# Altium schematic symbol library Schlib.SchLib: 629 symbols (part 7 of 21)
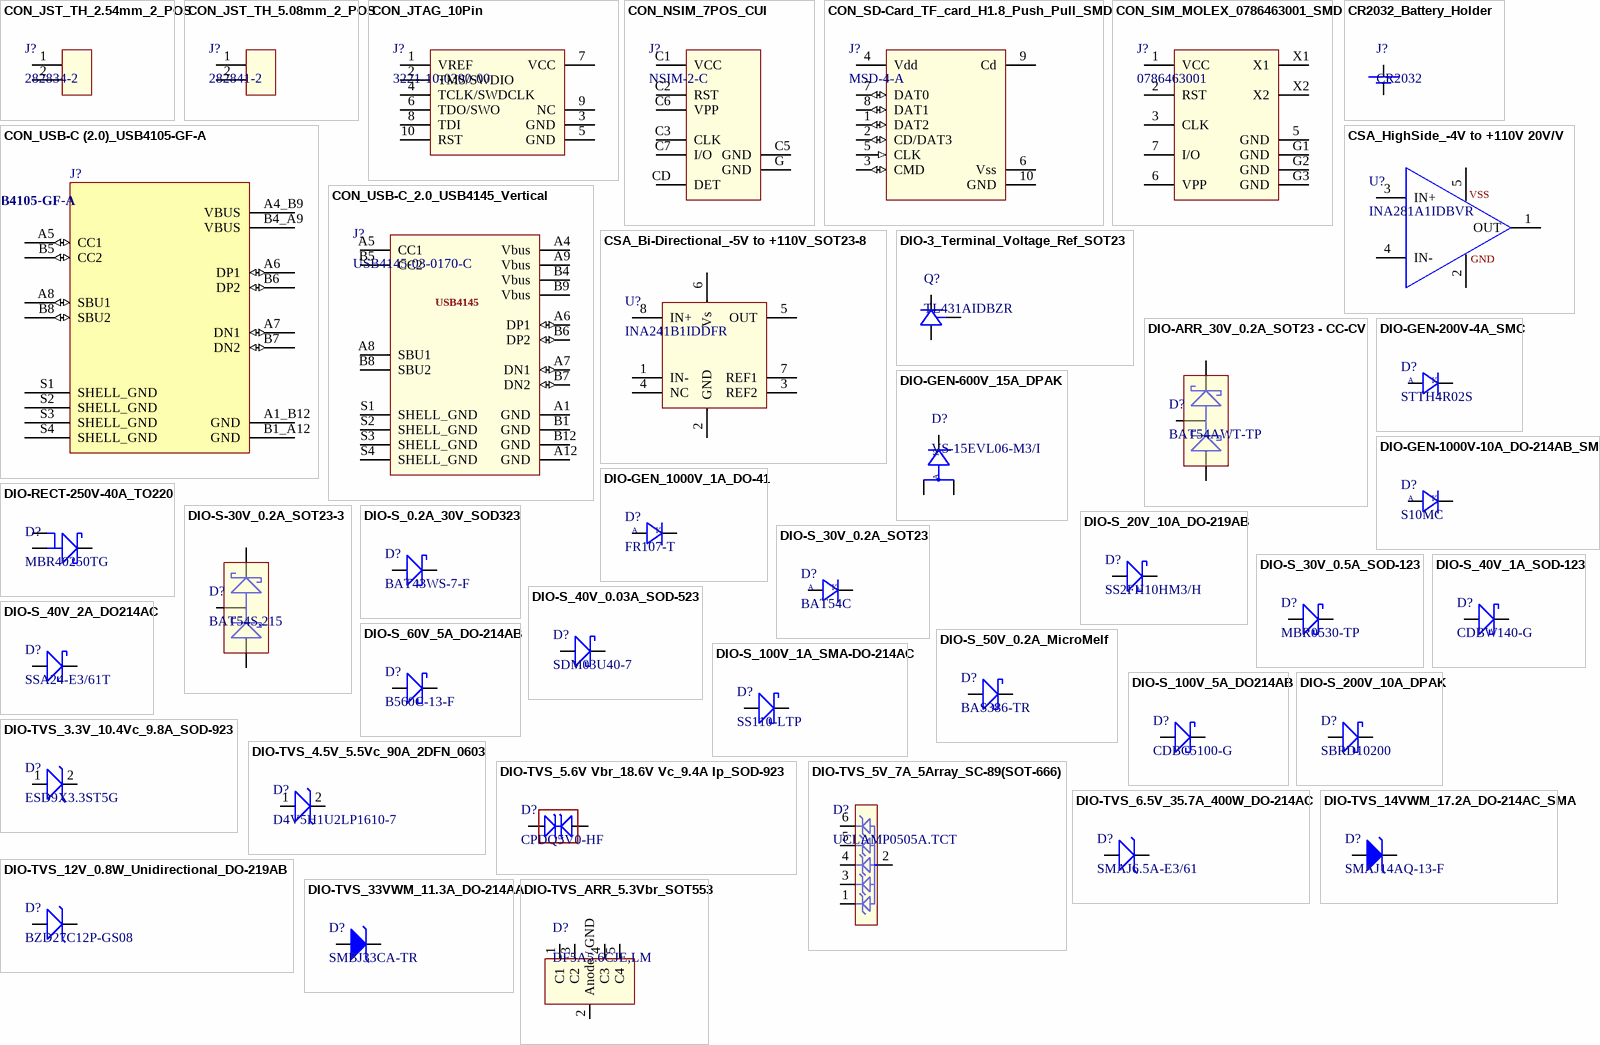
[diagram p24: symbols CON_JST_TH_2.54mm_2_POS to DIO-TVS_ARR_5.3Vbr_SOT553]

## CON_JST_TH_5.08mm_2_POS
designator J?, comment 282841-2
Modular Terminal Block, 17.5A, 2.5mm2, 1 Row(s), 1 Deck(s); Manufacturer: TE Connectivity; Manufacturer Series: 282841; Fastening Method: SCREW; Number of Decks: 1; Number of Ways: 2; Voltage Rating: 250V; Wire/Cable Gauge: 12AWG; Safety Approval: UL; Supplier: Farnell; Supplier Part Number: 4548183; Manufacturer Part Number: 282841-2; RoHS: Yes; Category: Terminal Blocks; Stock: 52539; Pricing: 150=0.712, 450=0.634 (EUR); Mounting Technology: Board; Number of Rows: 1; Terminal and Terminal Block Type: MODULAR TERMINAL BLOCK; Current Rating: 17.5A; Wire Cross Section: 2.5mm2; RoHS Compliant: Yes; Reach SVHC Compliant: No; ComponentLink1URL: https://datasheet.ciiva.com:443/pdfs/VipMasterIC/IC/TYEL/TYEL-S-A0008743874/TYEL-S-A0008711718-1.pdf?src-supplier=IHS+Markit; ComponentLink1Description: https://datasheet.ciiva.com:443/pdfs/VipMasterIC/IC/TYEL/TYEL-S-A0008743874/TYEL-S-A0008711718-1.pdf?src-supplier=IHS+Markit; ComponentLink2URL: https://datasheet.ciiva.com/15225/getdatasheetpartid-155859-15225932.pdf?src-supplier=Verical; ComponentLink2Description: https://datasheet.ciiva.com/15225/getdatasheetpartid-155859-15225932.pdf?src-supplier=Verical; ComponentLink3URL: https://datasheet.ciiva.com/11758/0900766b80e7dc90-11758676.pdf?src-supplier=Rs; ComponentLink3Description: https://datasheet.ciiva.com/11758/0900766b80e7dc90-11758676.pdf?src-supplier=Rs; ComponentLink4URL: https://datasheet.ciiva.com/823/eng-cd-282841-h6-823441.pdf?src-supplier=Digikey; ComponentLink4Description: https://datasheet.ciiva.com/823/eng-cd-282841-h6-823441.pdf?src-supplier=Digikey; ComponentLink5URL: https://datasheet.ciiva.com/30126/eng-cs-1308389-eurostyle-terminal-blocks-0607-30126654.pdf?src-supplier=Onlinecomponents.com; ComponentLink5Description: https://datasheet.ciiva.com/30126/eng-cs-1308389-eurostyle-terminal-blocks-0607-30126654.pdf?src-supplier=Onlinecomponents.com
footprint CON_JST_2POS_5.08mm
pins: 1, 2

## CON_JTAG_10Pin
designator J?, comment 3221-10-0300-00
Board Connector, 10 Contact(s), 2 Row(s), Male, Straight, Surface Mount Terminal; Manufacturer: CNC Tech; Option: General Purpose; Filter Feature: No; Mating Information: MULTIPLE MATING PARTS AVAILABLE; Number of Rows Loaded: 2; Number of Contacts: 10; Supplier: Digikey; Supplier Part Number: 1175-1735-ND; Manufacturer Part Number: 3221-10-0300-00; RoHS: Yes; Category: Connectors; Stock: 27108; Pricing: 1=0.82, 10=0.693, 80=0.62213, 440=0.50905, 3200=0.41006, 6400=0.39592, 12800=0.36764 (USD); Mounting Technology: Board; Contact Material: Brass; Contact Finish - Mating: GOLD FLASH; Contact Finish - Termination: GOLD FLASH; Connector Type: BOARD CONNECTOR; JESD-609 Code: e4; Contact Gender: Male; Mixed Contacts: No; Mounting Style: STRAIGHT; Termination: SMD/SMT; Terminal Pitch: 1.27mm; Flammability Rating: UL94 V-0; Reach SVHC Compliant: Yes; RoHS Compliant: Yes; DIN Conformance: No; IEC Conformance: No; MIL Conformance: No; ComponentLink1URL: https://datasheet.ciiva.com:443/pdfs/VipMasterIC/IC/CNCT/CNCT-S-A0002923148/CNCT-S-A0002923148-1.pdf?src-supplier=IHS+Markit; ComponentLink1Description: https://datasheet.ciiva.com:443/pdfs/VipMasterIC/IC/CNCT/CNCT-S-A0002923148/CNCT-S-A0002923148-1.pdf?src-supplier=IHS+Markit; ComponentLink2URL: http://cnctech.us/pdfs/3221-XX-0300-00.pdf?src-supplier=Digikey; ComponentLink2Description: http://cnctech.us/pdfs/3221-XX-0300-00.pdf?src-supplier=Digikey
footprint 3221-10-0300-00
pins: 1 VREF, 2 TMS/SWDIO, 3 GND, 4 TCLK/SWDCLK, 5 GND, 6 TDO/SWO, 7 VCC, 8 TDI, 9 NC, 10 RST

## CON_NSIM_7POS_CUI
designator J?, comment NSIM-2-C
NANO SIM CARD CONNECTORS, 6 POSI; Manufacturer: CUI Devices; Supplier: Digikey; Supplier Part Number: 2223-NSIM-2-CCT-ND; Manufacturer Part Number: NSIM-2-C; RoHS: No; Category: LDO; Stock: 2842; Pricing: 1=0.64, 10=0.626, 25=0.6136, 50=0.5768, 100=0.4909, 250=0.45404, 500=0.44178 (USD)
footprint NSIM_CUI
pins: C1 VCC, C2 RST, C3 CLK, C5 GND, C6 VPP, C7 I/O, CD DET, G GND

## CON_SD-Card_TF_card_H1.8_Push_Pull_SMD
designator J?, comment MSD-4-A
Memory Card Connectors 9 Positions, Push In, Auto Eject Out, SMT, 1.8 mm Height Above Board,; Manufacturer: SHOU HAN; Manufacturer Part Number: TF-CARDH1.8; ComponentLink6URL: https://datasheet.ciiva.com/683/1040310811-sd-683581.pdf?src-supplier=Digi-Key; ComponentLink6Description: https://datasheet.ciiva.com/683/1040310811-sd-683581.pdf?src-supplier=Digi-Key; ComponentLink7URL: https://datasheet.ciiva.com/15174/getdatasheetpartid-716154-15174887.pdf?src-supplier=Verical; ComponentLink7Description: https://datasheet.ciiva.com/15174/getdatasheetpartid-716154-15174887.pdf?src-supplier=Verical; Supplier: LCSC; Supplier Part Number: C7529389; RoHS: No; Category: Uncategorized; Stock: 1616; Pricing: 1=0.35, 10=0.348, 25=0.3408, 50=0.3204, 100=0.2727, 250=0.25224, 500=0.24544 (USD)
footprint CON_SD_CARD_9POS_1.1mm-P_1ROW (MSD-4-A / TF-CARD-H1.8)
pins: 1 DAT2 (io), 2 CD/DAT3 (io), 3 CMD (io), 4 Vdd (power), 5 CLK (in), 6 Vss (power), 7 DAT0 (io), 8 DAT1 (io), 9 Cd, 10 GND

## CON_SIM_MOLEX_0786463001_SMD
designator J?, comment 0786463001
PCB Connector, 6 Contact(s), 2 Row(s), Male, Right Angle, Surface Mount Terminal, Locking, Black Insulator, Socket; Manufacturer: Molex; Manufacturer Part Number: 78646-3001; Supplier: Digi-Key; Supplier Part Number: WM9364CT-ND; RoHS: Yes; Category: Memory Connectors; Stock: 261350; Pricing: 1=1.27, 10=1.048, 100=0.8736 (USD); ComponentLink1URL: https://datasheet.ciiva.com/4581/0786463001-memory-card-socket-152580-4581070.pdf?src-supplier=Mouser; ComponentLink1Description: https://datasheet.ciiva.com/4581/0786463001-memory-card-socket-152580-4581070.pdf?src-supplier=Mouser; ComponentLink2URL: https://datasheet.ciiva.com/24490/525020786463001-memory-card-socket-24490529.pdf?src-supplier=Onlinecomponents.com; ComponentLink2Description: https://datasheet.ciiva.com/24490/525020786463001-memory-card-socket-24490529.pdf?src-supplier=Onlinecomponents.com; ComponentLink3URL: https://datasheet.ciiva.com/16655/0786463001-memory-card-socket-16655172.pdf?; ComponentLink3Description: https://datasheet.ciiva.com/16655/0786463001-memory-card-socket-16655172.pdf?
footprint SIM_SOCKET_0786463001_MOLEX (0786463001)
pins: 1 VCC, 2 RST, 3 CLK, 5 GND, 6 VPP, 7 I/O, G1 GND, G2 GND, G3 GND, X1, X2

## CON_USB-C (2.0)_USB4105-GF-A
designator J?  (value not drawn)
Conn USB 2.0 Type C RCP 24 POS 0.3mm/0.5mm Solder RA SMD 24 Terminal 1 Port T/R; Manufacturer 1: Global Connector Technology; Manufacturer Part Number 1: USB4105-GF-A; Gender: Receptacle; Mating Cycles: 10000; Shielding: Shielded; Number of Ports: 1; ComponentLink1URL: https://gct.co/files/drawings/usb4105.pdf?src-supplier=Digi-Key; ComponentLink1Description: https://gct.co/files/drawings/usb4105.pdf?src-supplier=Digi-Key; ComponentLink2URL: https://datasheet.octopart.com/USB4105-GF-A-GCT-datasheet-166929323.pdf?src-supplier=TME; ComponentLink2Description: https://datasheet.octopart.com/USB4105-GF-A-GCT-datasheet-166929323.pdf?src-supplier=TME; Supplier 1: Farnell; RoHS: No; Category: USB Connectors; Pricing 1: 1=0.72, 20=0.559, 60=0.522, 160=0.443, 400=0.434 (GBP); Mount: Surface Mount,Through Hole,Horizontal; Contact Plating: Gold; Insulation Color: Black; Min Operating Temperature: -40°C; Max Operating Temperature: 85°C; Connector Type: USB; Series: USB4105; Termination: Solder; Flammability Rating: UL94 V-0; Supplier Part Number 1: 3588205
footprint CON_USB_TYPE-C-2.0 SMD TH
footprint CON_USB_TYPE-C-2.0 SMD TH
pins: A1_B12 GND, A4_B9 VBUS, A5 CC1 (io), A6 DP1 (io), A7 DN1 (io), A8 SBU1 (io), B1_A12 GND, B4_A9 VBUS, B5 CC2 (io), B6 DP2 (io), B7 DN2 (io), B8 SBU2 (io), S1 SHELL_GND, S2 SHELL_GND, S3 SHELL_GND, S4 SHELL_GND

## CON_USB-C_2.0_USB4145_Vertical
designator J?, comment USB4145-03-0170-C
16 posn USB 2.0 Type C, Receptacle, Vertical, SMT, Height 20, 000 mtg cycles; Manufacturer: Global Connector Technology; Supplier: Future Electronics; Supplier Part Number: 1181366; Manufacturer Part Number: USB4145-03-0170-C; RoHS: No; Category: Connectors; Stock: 1200; Pricing: 600=0.585, 1200=0.57, 1800=0.56, 2400=0.555, 3000=0.54 (USD); ComponentLink1URL: https://datasheet.octopart.com/USB4145-03-0170-C-Global-Connector-Technology-datasheet-164722446.pdf?src-supplier=Future+Electronics; ComponentLink1Description: https://datasheet.octopart.com/USB4145-03-0170-C-Global-Connector-Technology-datasheet-164722446.pdf?src-supplier=Future+Electronics
footprint USB4145-03-0170-C
pins: A1 GND, A4 Vbus, A5 CC1, A6 DP1 (io), A7 DN1 (io), A8 SBU1, A9 Vbus, A12 GND, B1 GND, B4 Vbus, B5 CC2, B6 DP2 (io), B7 DN2 (io), B8 SBU2, B9 Vbus, B12 GND, S1 SHELL_GND, S2 SHELL_GND, S3 SHELL_GND, S4 SHELL_GND
text: USB4145

## CR2032_Battery_Holder
designator J?, comment CR2032
footprint CR2032-Battery Holder
pins: 1, 2 1

## CSA_Bi-Directional_-5V to +110V_SOT23-8
designator U?, comment INA241B1IDDFR
-5-V to 110-V bidirectional high-precision current sense amplifier with enhanced PWM rejection 8-SOT-23-THIN -40 to 125; Manufacturer: Texas Instruments; Supplier: Mouser; Supplier Part Number: 595-INA241B1IDDFR; Manufacturer Part Number: INA241B1IDDFR; RoHS: No; Category: Amplifiers - Op Amps, Buffer, Instrumentation; Stock: 4388; Pricing: 1=2.76, 10=2.4, 50=2.4, 100=1.99, 1000=1.36, 10000=1.18 (USD)
footprint SOT23-8
pins: 1 IN-, 2 GND, 3 REF2, 4 NC, 5 OUT, 6 Vs, 7 REF1, 8 IN+

## CSA_HighSide_-4V to +110V 20V/V
designator U?, comment INA281A1IDBVR
Operational Amplifier, 1 Func, 500uV Offset-Max, PDSO5; Manufacturer: Texas Instruments; Supplier: Mouser; Supplier Part Number: 595-INA281A1IDBVR; Manufacturer Part Number: INA281A1IDBVR; RoHS: Yes; Category: Amplifiers - Op Amps, Buffer, Instrumentation; Stock: 2500; Pricing: 1=2.5, 10=2.13, 50=2.13, 100=1.81, 1000=1.24, 10000=1.1 (USD)
footprint SOT23-5
pins: 1 OUT, 2 GND, 3 IN+, 4 IN-, 5 Vs
text: VSS

## DIO-3_Terminal_Voltage_Ref_SOT23
designator Q?, comment TL431AIDBZR
Three Terminal Voltage Reference, 1 Output, 2.495V, Trim/Adjustable, BIPolar, PDSO3; Manufacturer: Texas Instruments; Package Body Material: Plastic; Channels: 1; Max Output Voltage: 2.52V; Min Output Voltage: 2.47V; Max Supply Voltage: 36V; Temp Coef of Voltage-Max: 109.018ppm/°C; Trim/Adjustable Output: Yes; Max Output current: 100mA; Package Equivalence Code: TO-236; Qualification Status: Not Qualified; Supplier: Mouser; Supplier Part Number: 595-TL431AIDBZR; Manufacturer Part Number: TL431AIDBZR; RoHS: Yes; Category: Voltage References; Stock: 724956; Pricing: 1=0.21, 10=0.128, 50=0.128, 100=0.095, 1000=0.086, 10000=0.077 (USD); Case/Package: TSSOP; Pins: 3; Terminal Finish: Nickel; Package Shape: Rectangular; Min Operating Temperature: -40°C; Max Operating Temperature: 85°C; JESD-609 Code: e4; Throw Configuration: THREE TERMINAL VOLTAGE REFERENCE; Moisture Sensitivity Level: 1; JESD-30 Code: R-PDSO-G3; Number of Outputs: 1; Nominal Output Voltage: 2.495V; Package Style: SMALL OUTLINE, THIN PROFILE, SHRINK PITCHMeter; Min Supply Voltage: 2.495V; Surface Mount: Yes; Terminal Form: Gull Wing; Terminal Position: DUAL; Peak Reflow Temperature (Cel): 260°C; Technology: BIPOLAR; Length: 2.92mm; Width: 1.3mm; Height - Seated (Max): 1.12mm; Terminal Pitch: 0.95mm; RoHS Compliant: Yes; Temperature Grade: INDUSTRIAL; Reach SVHC Compliant: Yes; ComponentLink1URL: https://www.ti.com:443/lit/ds/symlink/tl431.pdf?src-supplier=IHS+Markit; ComponentLink1Description: https://www.ti.com:443/lit/ds/symlink/tl431.pdf?src-supplier=IHS+Markit; ComponentLink2URL: https://datasheet.ciiva.com/3235/tl432b-3235600.pdf?src-supplier=Avnet; ComponentLink2Description: https://datasheet.ciiva.com/3235/tl432b-3235600.pdf?src-supplier=Avnet; ComponentLink3URL: https://datasheet.ciiva.com/15148/getdatasheetpartid-171576-15148968.pdf?src-supplier=Verical; ComponentLink3Description: https://datasheet.ciiva.com/15148/getdatasheetpartid-171576-15148968.pdf?src-supplier=Verical; ComponentLink4URL: https://datasheet.ciiva.com/41462/001014548-da-01-en-ic-vref-shunt-prec-tl431aidbzr-sot-3-tid-41462400.pdf?src-supplier=Conrad; ComponentLink4Description: https://datasheet.ciiva.com/41462/001014548-da-01-en-ic-vref-shunt-prec-tl431aidbzr-sot-3-tid-41462400.pdf?src-supplier=Conrad; ComponentLink5URL: https://datasheet.ciiva.com/46397/1887475-46397705.pdf?src-supplier=Element14; ComponentLink5Description: https://datasheet.ciiva.com/46397/1887475-46397705.pdf?src-supplier=Element14; ComponentLink6URL: https://datasheet.ciiva.com/2006/tl431a-2006188.pdf?src-supplier=Digikey; ComponentLink6Description: https://datasheet.ciiva.com/2006/tl431a-2006188.pdf?src-supplier=Digikey; ComponentLink7URL: https://datasheet.ciiva.com/2006/tl431a-2006187.pdf?src-supplier=Digikey; ComponentLink7Description: https://datasheet.ciiva.com/2006/tl431a-2006187.pdf?src-supplier=Digikey; ComponentLink8URL: https://datasheet.ciiva.com/2006/tl431a-2006189.pdf?src-supplier=Digikey; ComponentLink8Description: https://datasheet.ciiva.com/2006/tl431a-2006189.pdf?src-supplier=Digikey
footprint SOT23
pins: 1, 2, 3

## DIO-ARR_30V_0.2A_SOT23 - CC-CV
designator D?, comment BAT54AWT-TP
Rectifier Diode, Schottky, 2 Element, 0.2A, 30V V(RRM), Silicon; Manufacturer: MCC; Package Body Material: Plastic; Forward Voltage: 240mV; Non-rep Pk Forward Current-Max: 600mA; Number of Elements: 2; Max Output current: 200mA; Max Power Dissipation: 200mW; Reverse Recovery Time-Max: 0.005us; Time @ Peak Reflow Temperature-Max (s): 10s; Qualification Status: Not Qualified; Supplier: Digikey; Supplier Part Number: BAT54AWT-TPCT-ND; Manufacturer Part Number: BAT54AWT-TP; RoHS: Yes; Category: Rectifier Diodes; Stock: 43623; Pricing: 1=0.16, 10=0.096, 100=0.0593, 500=0.04302, 1000=0.03771 (USD); Pins: 3; Diode Element Material: SILICON; Package Shape: Rectangular; Terminal Finish: Tin; Min Operating Temperature: -55°C; Max Operating Temperature: 125°C; JESD-609 Code: e3; Diode Type: RECTIFIER; JESD-30 Code: R-PDSO-G3; Moisture Sensitivity Level: 1; Package Style: SMALL OUTLINEMeter; Peak Reflow Temperature (Cel): 260°C; Rep Pk Reverse Voltage-Max: 30V; Surface Mount: Yes; Technology: SCHOTTKY; Terminal Form: Gull Wing; Terminal Position: DUAL; Reach SVHC Compliant: Yes; RoHS Compliant: Yes; ComponentLink1URL: https://datasheet.ciiva.com:443/pdfs/VipMasterIC/IC/MCCC/MCCC-S-A0004715819/MCCC-S-A0004715819-1.pdf?src-supplier=IHS+Markit; ComponentLink1Description: https://datasheet.ciiva.com:443/pdfs/VipMasterIC/IC/MCCC/MCCC-S-A0004715819/MCCC-S-A0004715819-1.pdf?src-supplier=IHS+Markit; ComponentLink2URL: https://datasheet.ciiva.com/7624/1684808-7624704.pdf?src-supplier=Element14; ComponentLink2Description: https://datasheet.ciiva.com/7624/1684808-7624704.pdf?src-supplier=Element14; ComponentLink3URL: https://datasheet.ciiva.com/904/bat54wtbat54swtsot-323-904760.pdf?src-supplier=Digikey; ComponentLink3Description: https://datasheet.ciiva.com/904/bat54wtbat54swtsot-323-904760.pdf?src-supplier=Digikey; ComponentLink4URL: https://datasheet.ciiva.com/904/bat54wtbat54swtsot-323-904761.pdf?src-supplier=Digikey; ComponentLink4Description: https://datasheet.ciiva.com/904/bat54wtbat54swtsot-323-904761.pdf?src-supplier=Digikey; ComponentLink5URL: https://datasheet.ciiva.com/904/bat54wtbat54swtsot-323-904762.pdf?src-supplier=Digikey; ComponentLink5Description: https://datasheet.ciiva.com/904/bat54wtbat54swtsot-323-904762.pdf?src-supplier=Digikey
footprint SOT23
pins: 1, 2, 3

## DIO-GEN-200V-4A_SMC
designator D?, comment STTH4R02S
Rectifier Diode, 1 Phase, 1 Element, 4A, 200V V(RRM), Silicon; Manufacturer: STMicroelectronics; Package Body Material: Plastic; Additional Feature: FREE WHEELING DIODE; Application(s): ULTRA FAST RECOVERY; Forward Voltage: 830mV; Non-rep Pk Forward Current-Max: 70A; Number of Elements: 1; Reverse Recovery Time-Max: 0.03us; Qualification Status: Not Qualified; Supplier: Rs; Supplier Part Number: 6870723P; Manufacturer Part Number: STTH4R02S; RoHS: Yes; Category: Rectifier Diodes; Stock: 1000; Pricing: 100=0.233, 500=0.178, 1000=0.149 (EUR); Pins: 2; Diode Element Material: SILICON; Package Shape: Rectangular; Terminal Finish: Tin; Max Operating Temperature: 175°C; JESD-609 Code: e3; Diode Type: RECTIFIER; JESD-30 Code: R-PDSO-C2; Moisture Sensitivity Level: 1; Number of Phases: 1; Max Output current: 4A; Package Style: SMALL OUTLINEMeter; Rep Pk Reverse Voltage-Max: 200V; Surface Mount: Yes; Terminal Form: C BEND; Terminal Position: DUAL; Peak Reflow Temperature (Cel): 225°C; RoHS Compliant: Yes; Reach SVHC Compliant: No; ComponentLink1URL: https://datasheet.ciiva.com:443/pdfs/VipMasterIC/IC/SGST/SGST-S-A0002807714/SGST-S-A0002807714-1.pdf?src-supplier=IHS+Markit; ComponentLink1Description: https://datasheet.ciiva.com:443/pdfs/VipMasterIC/IC/SGST/SGST-S-A0002807714/SGST-S-A0002807714-1.pdf?src-supplier=IHS+Markit; ComponentLink2URL: https://datasheet.ciiva.com/14169/cd00110337-14169016.pdf?src-supplier=Distrelec; ComponentLink2Description: https://datasheet.ciiva.com/14169/cd00110337-14169016.pdf?src-supplier=Distrelec; ComponentLink3URL: https://datasheet.ciiva.com/22696/1877641-22696085.pdf?src-supplier=Element14; ComponentLink3Description: https://datasheet.ciiva.com/22696/1877641-22696085.pdf?src-supplier=Element14; ComponentLink4URL: https://datasheet.ciiva.com/7964/1877641-7964058.pdf?src-supplier=Element14; ComponentLink4Description: https://datasheet.ciiva.com/7964/1877641-7964058.pdf?src-supplier=Element14; ComponentLink5URL: https://datasheet.ciiva.com/16379/cd00110337-16379301.pdf?src-supplier=Future+Electronics; ComponentLink5Description: https://datasheet.ciiva.com/16379/cd00110337-16379301.pdf?src-supplier=Future+Electronics; ComponentLink6URL: https://datasheet.ciiva.com/916/cd00110337-916224.pdf?src-supplier=Digikey; ComponentLink6Description: https://datasheet.ciiva.com/916/cd00110337-916224.pdf?src-supplier=Digikey; ComponentLink7URL: https://datasheet.ciiva.com/916/cd00110337-916225.pdf?src-supplier=Digikey; ComponentLink7Description: https://datasheet.ciiva.com/916/cd00110337-916225.pdf?src-supplier=Digikey; ComponentLink8URL: https://datasheet.ciiva.com/916/cd00110337-916226.pdf?src-supplier=Digikey; ComponentLink8Description: https://datasheet.ciiva.com/916/cd00110337-916226.pdf?src-supplier=Digikey
footprint DO-214AB SMC
pins: 1, 2
text: A; K

## DIO-GEN-600V_15A_DPAK
designator D?, comment VS-15EVL06-M3/I
Rectifier Diode, 1 Phase, 1 Element, 15A, 600V V(RRM), Silicon, TO-252AE; Manufacturer: Vishay Semiconductors; Supplier: Mouser; Supplier Part Number: 78-VS-15EVL06-M3/I; Manufacturer Part Number: VS-15EVL06-M3/I; RoHS: Yes; Category: Rectifier Diodes; Stock: 39178; Pricing: 1=1.16, 10=0.941, 50=0.941, 100=0.659, 1000=0.457, 10000=0.434 (USD); Diode Type: RECTIFIER; RoHS Compliant: Yes; ComponentLink1URL: https://datasheet.ciiva.com:443/pdfs/VipMasterIC/IC/VISH/VISH-S-A0008532213/VISH-S-A0008532213-1.pdf?src-supplier=IHS+Markit; ComponentLink1Description: https://datasheet.ciiva.com:443/pdfs/VipMasterIC/IC/VISH/VISH-S-A0008532213/VISH-S-A0008532213-1.pdf?src-supplier=IHS+Markit; ComponentLink2URL: http://www.vishay.com/docs/96161/vs-15evl06-m3.pdf?src-supplier=Digikey; ComponentLink2Description: http://www.vishay.com/docs/96161/vs-15evl06-m3.pdf?src-supplier=Digikey
footprint DPAK - TO-252
pins: 1, 3 1, 4 2
text: K; A

## DIO-GEN-1000V-10A_DO-214AB_SMC
designator D?, comment S10MC
Diode 1000 V 10A Surface Mount DO-214AB (SMC); Manufacturer: Taiwan Semiconductor; Supplier: Digikey; Supplier Part Number: 1801-S10MCCT-ND; Manufacturer Part Number: S10MC; RoHS: No; Stock: 1493; Pricing: 1=0.59, 10=0.392, 100=0.2669, 500=0.2095, 1000=0.19051 (USD)
footprint DO-214AB SMC
pins: 1, 2
text: A; K

## DIO-GEN_1000V_1A_DO-41
designator D?, comment FR107-T
Rectifier Diode, 1 Phase, 1 Element, 1A, 1000V V(RRM), Silicon, DO-41; Manufacturer: Rectron; Package Body Material: Plastic; Additional Feature: HIGH RELIABILITY; Case Connection: Isolated; Number of Elements: 1; Rep Pk Reverse Voltage-Max: 1kV; Reverse Recovery Time-Max: 0.5us; Surface Mount: No; Qualification Status: Not Qualified; Supplier: Mouser; Supplier Part Number: 583-FR107-T; Manufacturer Part Number: FR107-T; RoHS: Yes; Category: Rectifier Diodes; Stock: 11419; Pricing: 1=0.27, 10=0.182, 50=0.182, 100=0.116, 1000=0.052, 10000=0.034 (USD); Pins: 2; Diode Element Material: SILICON; Package Shape: Round; Terminal Finish: Tin; Min Operating Temperature: -55°C; Max Operating Temperature: 150°C; JESD-609 Code: e3; Diode Type: RECTIFIER; JESD-30 Code: O-PALF-W2; Max Output current: 1A; Package Style: LONG FORMMeter; Peak Reflow Temperature (Cel): 265°C; Terminal Form: Wire; Terminal Position: AXIAL; JEDEC-95 Code: DO-41; RoHS Compliant: Yes; Reach SVHC Compliant: No; ComponentLink1URL: https://datasheet.ciiva.com:443/pdfs/VipMasterIC/IC/RECT/RECT-S-A0002848550/RECT-S-A0002848550-1.pdf?src-supplier=IHS+Markit; ComponentLink1Description: https://datasheet.ciiva.com:443/pdfs/VipMasterIC/IC/RECT/RECT-S-A0002848550/RECT-S-A0002848550-1.pdf?src-supplier=IHS+Markit; ComponentLink2URL: http://www.mouser.com/ds/2/345/fr101-107-21063.pdf?src-supplier=Mouser; ComponentLink2Description: http://www.mouser.com/ds/2/345/fr101-107-21063.pdf?src-supplier=Mouser
footprint DO-41
pins: 1 2, 2 1
text: A; K

## DIO-RECT-250V-40A_TO220
designator D?, comment MBR40250TG
Rectifier Diode, Schottky, 1 Phase, 1 Element, 40A, 250V V(RRM), Silicon, TO-220AB; Manufacturer: ON Semiconductor; Package Body Material: Plastic; Application(s): EFFICIENCY; Case Connection: CATHODE; Forward Voltage: 710mV; Non-rep Pk Forward Current-Max: 150A; Number of Elements: 1; Reverse Recovery Time-Max: 0.035us; Surface Mount: No; Time @ Peak Reflow Temperature-Max (s): 40s; Qualification Status: Not Qualified; Supplier: Rs; Supplier Part Number: 7815685P; Manufacturer Part Number: MBR40250TG; RoHS: Yes; Category: Schottky Diodes; Stock: 90; Pricing: 10=1.742, 100=1.366, 500=1.162, 1000=0.94 (EUR); Pins: 3; Diode Element Material: SILICON; Package Shape: Rectangular; Terminal Finish: Tin; Min Operating Temperature: -65°C; Max Operating Temperature: 150°C; JESD-609 Code: e3; Diode Type: RECTIFIER; JESD-30 Code: R-PSFM-T3; Number of Phases: 1; Max Output current: 40A; Package Style: FLANGE MOUNTMeter; Peak Reflow Temperature (Cel): 260°C; Rep Pk Reverse Voltage-Max: 250V; Technology: SCHOTTKY; Terminal Form: Through Hole; Terminal Position: SINGLE; JEDEC-95 Code: TO-220AB; RoHS Compliant: Yes; Reach SVHC Compliant: No; ComponentLink1URL: https://datasheet.ciiva.com:443/pdfs/VipMasterIC/IC/ONSM/ONSM-S-A0002315274/ONSM-S-A0002315274-1.pdf?src-supplier=IHS+Markit; ComponentLink1Description: https://datasheet.ciiva.com:443/pdfs/VipMasterIC/IC/ONSM/ONSM-S-A0002315274/ONSM-S-A0002315274-1.pdf?src-supplier=IHS+Markit; ComponentLink2URL: https://datasheet.ciiva.com/916/mbr40250-d-916544.pdf?src-supplier=Digikey; ComponentLink2Description: https://datasheet.ciiva.com/916/mbr40250-d-916544.pdf?src-supplier=Digikey; ComponentLink3URL: https://datasheet.ciiva.com/8299/mbr40250-d-8299912.pdf?src-supplier=Avnet; ComponentLink3Description: https://datasheet.ciiva.com/8299/mbr40250-d-8299912.pdf?src-supplier=Avnet
footprint TO220
pins: 1, 2, 3

## DIO-S-30V_0.2A_SOT23-3
designator D?, comment BAT54S,215
Rectifier Diode, Schottky, 2 Element, 0.2A, 30V V(RRM), Silicon, TO-236AB; Manufacturer: Nexperia; Package Body Material: Plastic; Number of Elements: 2; Max Output current: 200mA; Max Power Dissipation: 250mW; Reverse Recovery Time-Max: 0.005us; Time @ Peak Reflow Temperature-Max (s): 30s; Reference Standard: AEC-Q101; Supplier: Digikey; Supplier Part Number: 1727-2904-1-ND; Manufacturer Part Number: BAT54S,215; RoHS: Yes; Category: Schottky Diodes; Stock: 1191571; Pricing: 1=0.11, 10=0.075, 100=0.0504, 500=0.0382, 1000=0.03405 (USD); Pins: 3; Diode Element Material: SILICON; Package Shape: Rectangular; Terminal Finish: Tin; Min Operating Temperature: -55°C; Max Operating Temperature: 150°C; JESD-609 Code: e3; Diode Type: RECTIFIER; JESD-30 Code: R-PDSO-G3; Moisture Sensitivity Level: 1; Package Style: SMALL OUTLINEMeter; Peak Reflow Temperature (Cel): 260°C; Rep Pk Reverse Voltage-Max: 30V; Surface Mount: Yes; Technology: SCHOTTKY; Terminal Form: Gull Wing; Terminal Position: DUAL; JEDEC-95 Code: TO-236AB; Reach SVHC Compliant: Yes; RoHS Compliant: Yes; ComponentLink1URL: https://datasheet.ciiva.com:443/pdfs/VipMasterIC/IC/NEXP/NEXP-S-A0005722381/NEXP-S-A0005722381-1.pdf?src-supplier=IHS+Markit; ComponentLink1Description: https://datasheet.ciiva.com:443/pdfs/VipMasterIC/IC/NEXP/NEXP-S-A0005722381/NEXP-S-A0005722381-1.pdf?src-supplier=IHS+Markit; ComponentLink2URL: http://www.farnell.com/datasheets/1668625.pdf?src-supplier=Farnell; ComponentLink2Description: http://www.farnell.com/datasheets/1668625.pdf?src-supplier=Farnell; ComponentLink3URL: https://datasheet.octopart.com/BAT54S%2C215-Nexperia-datasheet-164353999.pdf?src-supplier=Future+Electronics; ComponentLink3Description: https://datasheet.octopart.com/BAT54S%2C215-Nexperia-datasheet-164353999.pdf?src-supplier=Future+Electronics; ComponentLink4URL: https://assets.nexperia.com/documents/data-sheet/BAT54_SER.pdf?src-supplier=Digikey; ComponentLink4Description: https://assets.nexperia.com/documents/data-sheet/BAT54_SER.pdf?src-supplier=Digikey; ComponentLink5URL: https://datasheet.octopart.com/BAT54S%2C215-Nexperia-datasheet-17957.pdf?src-supplier=Newark; ComponentLink5Description: https://datasheet.octopart.com/BAT54S%2C215-Nexperia-datasheet-17957.pdf?src-supplier=Newark; ComponentLink6URL: http://www.nxp.com/documents/data_sheet/BAT54W.pdf?src-supplier=Newark; ComponentLink6Description: http://www.nxp.com/documents/data_sheet/BAT54W.pdf?src-supplier=Newark
footprint SOT23
pins: 1, 2, 3

## DIO-S_0.2A_30V_SOD323
designator D?, comment BAT43WS-7-F
Rectifier Diode, Schottky, 1 Phase, 1 Element, 0.2A, 30V V(RRM), Silicon; Manufacturer: Diodes; Package Body Material: Plastic; Forward Voltage: 330mV; Non-rep Pk Forward Current-Max: 4A; Number of Elements: 1; Max Output current: 200mA; Max Power Dissipation: 200mW; Reverse Recovery Time-Max: 0.005us; Time @ Peak Reflow Temperature-Max (s): 40s; Qualification Status: Not Qualified; Supplier: Rs; Supplier Part Number: 7513364; Manufacturer Part Number: BAT43WS-7-F; RoHS: Yes; Category: Schottky Diodes; Stock: 3600; Pricing: 100=0.048, 600=0.076, 1500=0.062 (CHF); Pins: 2; Diode Element Material: SILICON; Package Shape: Rectangular; Terminal Finish: Tin; Min Operating Temperature: -55°C; Max Operating Temperature: 125°C; JESD-609 Code: e3; Diode Type: RECTIFIER; JESD-30 Code: R-PDSO-G2; Moisture Sensitivity Level: 1; Package Style: SMALL OUTLINEMeter; Peak Reflow Temperature (Cel): 260°C; Rep Pk Reverse Voltage-Max: 30V; Surface Mount: Yes; Technology: SCHOTTKY; Terminal Form: Gull Wing; Terminal Position: DUAL; Reach SVHC Compliant: Yes; RoHS Compliant: Yes; ComponentLink1URL: https://datasheet.ciiva.com:443/pdfs/VipMasterIC/IC/DIOD/DIODS15164/DIODS15164-1.pdf?src-supplier=IHS+Markit; ComponentLink1Description: https://datasheet.ciiva.com:443/pdfs/VipMasterIC/IC/DIOD/DIODS15164/DIODS15164-1.pdf?src-supplier=IHS+Markit; ComponentLink2URL: https://datasheet.ciiva.com/26949/getdatasheetpartid-185001-26949417.pdf?src-supplier=Verical; ComponentLink2Description: https://datasheet.ciiva.com/26949/getdatasheetpartid-185001-26949417.pdf?src-supplier=Verical; ComponentLink3URL: https://datasheet.ciiva.com/8303/ds30100-8303133.pdf?src-supplier=Avnet; ComponentLink3Description: https://datasheet.ciiva.com/8303/ds30100-8303133.pdf?src-supplier=Avnet; ComponentLink4URL: https://datasheet.ciiva.com/8303/ds30100-8303263.pdf?src-supplier=Avnet; ComponentLink4Description: https://datasheet.ciiva.com/8303/ds30100-8303263.pdf?src-supplier=Avnet; ComponentLink5URL: https://datasheet.ciiva.com/912/ds30100-912888.pdf?src-supplier=Digikey; ComponentLink5Description: https://datasheet.ciiva.com/912/ds30100-912888.pdf?src-supplier=Digikey; ComponentLink6URL: https://datasheet.ciiva.com/912/ds30100-912889.pdf?src-supplier=Digikey; ComponentLink6Description: https://datasheet.ciiva.com/912/ds30100-912889.pdf?src-supplier=Digikey; ComponentLink7URL: https://datasheet.ciiva.com/912/ds30100-912890.pdf?src-supplier=Digikey; ComponentLink7Description: https://datasheet.ciiva.com/912/ds30100-912890.pdf?src-supplier=Digikey
footprint SOD-323
pins: 1, 2

## DIO-S_20V_10A_DO-219AB
designator D?, comment SS2FH10HM3/H
Rectifier Diode, Schottky, 1 Phase, 1 Element, 2A, 100V V(RRM), Silicon, DO-219AB; Manufacturer: Vishay Semiconductors; Package Body Material: Plastic; Application(s): GENERAL PURPOSE; Forward Voltage: 860mV; Non-rep Pk Forward Current-Max: 50A; Number of Elements: 1; Max Reverse Current: 5uA; Reference Standard: AEC-Q101; Supplier: Digikey; Supplier Part Number: SS2FH10HM3/HGICT-ND; Manufacturer Part Number: SS2FH10HM3/H; RoHS: Yes; Category: Rectifier Diodes; Stock: 20427; Pricing: 1=0.42, 10=0.325, 100=0.1953, 500=0.1808, 1000=0.12294 (USD); Pins: 2; Diode Element Material: SILICON; Package Shape: Rectangular; Terminal Finish: Tin; Min Operating Temperature: -55°C; Max Operating Temperature: 175°C; JESD-609 Code: e3; Diode Type: RECTIFIER; JESD-30 Code: R-PDSO-F2; Moisture Sensitivity Level: 1; Number of Phases: 1; Max Output current: 2A; Package Style: SMALL OUTLINEMeter; Rep Pk Reverse Voltage-Max: 100V; Surface Mount: Yes; Technology: SCHOTTKY; Terminal Form: Flat; Terminal Position: DUAL; JEDEC-95 Code: DO-219AB; RoHS Compliant: Yes; ComponentLink1URL: https://datasheet.ciiva.com:443/pdfs/VipMasterIC/IC/VISH/VISH-S-A0006279306/VISH-S-A0006279306-1.pdf?src-supplier=IHS+Markit; ComponentLink1Description: https://datasheet.ciiva.com:443/pdfs/VipMasterIC/IC/VISH/VISH-S-A0006279306/VISH-S-A0006279306-1.pdf?src-supplier=IHS+Markit; ComponentLink2URL: http://www.mouser.com/ds/2/427/ss2fh10-935254.pdf?src-supplier=Mouser; ComponentLink2Description: http://www.mouser.com/ds/2/427/ss2fh10-935254.pdf?src-supplier=Mouser; ComponentLink3URL: http://www.vishay.com/docs/87749/ss2fh10.pdf?src-supplier=Digikey; ComponentLink3Description: http://www.vishay.com/docs/87749/ss2fh10.pdf?src-supplier=Digikey
footprint DO-219AB
pins: 1, 2

## DIO-S_30V_0.2A_SOT23
designator D?, comment BAT54C
Rectifier Diode, Schottky, 2 Element, 0.2A, 30V V(RRM), Silicon; Manufacturer: Diodes; Manufacturer Part Number: BAT54C-7-F; Package Body Material: Plastic; Additional Feature: HIGH RELIABILITY; Forward Voltage: 240mV; Non-rep Pk Forward Current-Max: 600mA; Number of Elements: 2; Max Output current: 200mA; Max Power Dissipation: 200mW; Reverse Recovery Time-Max: 0.005us; Time @ Peak Reflow Temperature-Max (s): 40s; Qualification Status: Not Qualified; Supplier: Farnell; Supplier Part Number: 1843689; RoHS: Yes; Category: Schottky Diodes; Stock: 750766; Pricing: 5=0.0955, 10=0.0487, 100=0.0439, 500=0.0316, 1000=0.0281, 5000=0.0202 (EUR); Pins: 3; Package Shape: Rectangular; Terminal Finish: Tin; Diode Element Material: SILICON; Min Operating Temperature: -65°C; Max Operating Temperature: 150°C; JESD-609 Code: e3; Surface Mount: Yes; Technology: SCHOTTKY; Terminal Form: Gull Wing; Terminal Position: DUAL; Diode Type: RECTIFIER; JESD-30 Code: R-PDSO-G3; Moisture Sensitivity Level: 1; Package Style: SMALL OUTLINEMeter; Peak Reflow Temperature (Cel): 260°C; Rep Pk Reverse Voltage-Max: 30V; Reach SVHC Compliant: Yes; RoHS Compliant: Yes; ComponentLink1URL: https://datasheet.ciiva.com:443/pdfs/VipMasterIC/IC/DIOD/DIOD-S-A0002832764/DIOD-S-A0002832764-1.pdf?src-supplier=IHS+Markit; ComponentLink1Description: https://datasheet.ciiva.com:443/pdfs/VipMasterIC/IC/DIOD/DIOD-S-A0002832764/DIOD-S-A0002832764-1.pdf?src-supplier=IHS+Markit; ComponentLink2URL: https://datasheet.ciiva.com/904/ds11005-904592.pdf?src-supplier=Digikey; ComponentLink2Description: https://datasheet.ciiva.com/904/ds11005-904592.pdf?src-supplier=Digikey; ComponentLink3URL: https://datasheet.ciiva.com/22695/1911820-22695254.pdf?src-supplier=Element14; ComponentLink3Description: https://datasheet.ciiva.com/22695/1911820-22695254.pdf?src-supplier=Element14; ComponentLink4URL: https://datasheet.ciiva.com/15143/getdatasheetpartid-29884-15143959.pdf?src-supplier=Verical; ComponentLink4Description: https://datasheet.ciiva.com/15143/getdatasheetpartid-29884-15143959.pdf?src-supplier=Verical
footprint SOT23
pins: 1,2 1, 3 2
text: A; K

## DIO-S_30V_0.5A_SOD-123
designator D?, comment MBR0530-TP
Rectifier Diode, Schottky, 1 Phase, 1 Element, 0.5A, 30V V(RRM), Silicon; Manufacturer: MCC; Package Body Material: Plastic; Forward Voltage: 550mV; Non-rep Pk Forward Current-Max: 5.5A; Number of Elements: 1; Max Output current: 500mA; Max Power Dissipation: 410mW; Time @ Peak Reflow Temperature-Max (s): 10s; Qualification Status: Not Qualified; Supplier: Mouser; Supplier Part Number: 833-MBR0530-TP; Manufacturer Part Number: MBR0530-TP; RoHS: Yes; Category: Schottky Diodes; Stock: 179911; Pricing: 1=0.15, 10=0.105, 50=0.105, 100=0.053, 1000=0.041, 10000=0.036 (USD); Pins: 2; Diode Element Material: SILICON; Package Shape: Rectangular; Terminal Finish: Tin; Max Operating Temperature: 150°C; JESD-609 Code: e3; Diode Type: RECTIFIER; JESD-30 Code: R-PDSO-G2; Moisture Sensitivity Level: 1; Package Style: SMALL OUTLINEMeter; Peak Reflow Temperature (Cel): 260°C; Rep Pk Reverse Voltage-Max: 30V; Surface Mount: Yes; Technology: SCHOTTKY; Terminal Form: Gull Wing; Terminal Position: DUAL; RoHS Compliant: Yes; Reach SVHC Compliant: Yes; ComponentLink1URL: https://datasheet.ciiva.com:443/pdfs/VipMasterIC/IC/MCCC/MCCC-S-A0007607536/MCCC-S-A0007607536-1.pdf?src-supplier=IHS+Markit; ComponentLink1Description: https://datasheet.ciiva.com:443/pdfs/VipMasterIC/IC/MCCC/MCCC-S-A0007607536/MCCC-S-A0007607536-1.pdf?src-supplier=IHS+Markit; ComponentLink2URL: https://datasheet.ciiva.com/7963/1699590-7963291.pdf?src-supplier=Element14; ComponentLink2Description: https://datasheet.ciiva.com/7963/1699590-7963291.pdf?src-supplier=Element14; ComponentLink3URL: https://datasheet.ciiva.com/28381/1699590-28381995.pdf?src-supplier=Element14; ComponentLink3Description: https://datasheet.ciiva.com/28381/1699590-28381995.pdf?src-supplier=Element14; ComponentLink4URL: https://datasheet.ciiva.com/17318/mbr0520mbr0580sod123-17318572.pdf?src-supplier=Future+Electronics; ComponentLink4Description: https://datasheet.ciiva.com/17318/mbr0520mbr0580sod123-17318572.pdf?src-supplier=Future+Electronics; ComponentLink5URL: https://datasheet.ciiva.com/15200/getdatasheetpartid-309726-15200503.pdf?src-supplier=Verical; ComponentLink5Description: https://datasheet.ciiva.com/15200/getdatasheetpartid-309726-15200503.pdf?src-supplier=Verical; ComponentLink6URL: https://datasheet.ciiva.com/912/mbr0520mbr0580sod123-912298.pdf?src-supplier=Digikey; ComponentLink6Description: https://datasheet.ciiva.com/912/mbr0520mbr0580sod123-912298.pdf?src-supplier=Digikey; ComponentLink7URL: https://datasheet.ciiva.com/912/mbr0520mbr0580sod123-912299.pdf?src-supplier=Digikey; ComponentLink7Description: https://datasheet.ciiva.com/912/mbr0520mbr0580sod123-912299.pdf?src-supplier=Digikey; ComponentLink8URL: https://datasheet.ciiva.com/912/mbr0520mbr0580sod123-912297.pdf?src-supplier=Digikey; ComponentLink8Description: https://datasheet.ciiva.com/912/mbr0520mbr0580sod123-912297.pdf?src-supplier=Digikey
footprint SOD-123
pins: 1, 2

## DIO-S_40V_0.03A_SOD-523
designator D?, comment SDM03U40-7
Rectifier Diode, Schottky, 1 Phase, 1 Element, 0.03A, 40V V(RRM), Silicon; Manufacturer: Diodes; Package Body Material: Plastic; Additional Feature: HIGH RELIABILITY; Forward Voltage: 370mV; Non-rep Pk Forward Current-Max: 200mA; Number of Elements: 1; Max Output current: 30mA; Max Power Dissipation: 150mW; Time @ Peak Reflow Temperature-Max (s): 40s; Qualification Status: Not Qualified; Supplier: Farnell; Supplier Part Number: 3127444; Manufacturer Part Number: SDM03U40-7; RoHS: Yes; Category: Schottky Diodes; Stock: 2092; Pricing: 5=0.114, 10=0.0772, 100=0.0667, 500=0.0496, 1000=0.0486, 5000=0.0476 (EUR); Pins: 2; Diode Element Material: SILICON; Package Shape: Rectangular; Terminal Finish: Tin; Min Operating Temperature: -40°C; Max Operating Temperature: 125°C; JESD-609 Code: e3; Diode Type: RECTIFIER; JESD-30 Code: R-PDSO-F2; Moisture Sensitivity Level: 1; Package Style: SMALL OUTLINEMeter; Peak Reflow Temperature (Cel): 260°C; Rep Pk Reverse Voltage-Max: 40V; Surface Mount: Yes; Technology: SCHOTTKY; Terminal Form: Flat; Terminal Position: DUAL; Reach SVHC Compliant: Yes; RoHS Compliant: Yes; ComponentLink1URL: https://datasheet.ciiva.com:443/pdfs/VipMasterIC/IC/DIOD/DIODS10818/DIODS10818-1.pdf?src-supplier=IHS+Markit; ComponentLink1Description: https://datasheet.ciiva.com:443/pdfs/VipMasterIC/IC/DIOD/DIODS10818/DIODS10818-1.pdf?src-supplier=IHS+Markit; ComponentLink2URL: https://datasheet.ciiva.com/4715/ds30392-87516-4715617.pdf?src-supplier=Mouser; ComponentLink2Description: https://datasheet.ciiva.com/4715/ds30392-87516-4715617.pdf?src-supplier=Mouser; ComponentLink3URL: https://datasheet.ciiva.com/8301/ds30392-8301153.pdf?src-supplier=Avnet; ComponentLink3Description: https://datasheet.ciiva.com/8301/ds30392-8301153.pdf?src-supplier=Avnet; ComponentLink4URL: https://datasheet.ciiva.com/912/ds30392-912843.pdf?src-supplier=Digikey; ComponentLink4Description: https://datasheet.ciiva.com/912/ds30392-912843.pdf?src-supplier=Digikey; ComponentLink5URL: https://datasheet.ciiva.com/912/ds30392-912844.pdf?src-supplier=Digikey; ComponentLink5Description: https://datasheet.ciiva.com/912/ds30392-912844.pdf?src-supplier=Digikey; ComponentLink6URL: https://datasheet.ciiva.com/912/ds30392-912845.pdf?src-supplier=Digikey; ComponentLink6Description: https://datasheet.ciiva.com/912/ds30392-912845.pdf?src-supplier=Digikey; ComponentLink7URL: https://datasheet.ciiva.com/15144/getdatasheetpartid-38927-15144053.pdf?src-supplier=Verical; ComponentLink7Description: https://datasheet.ciiva.com/15144/getdatasheetpartid-38927-15144053.pdf?src-supplier=Verical
footprint SOD-523
pins: 1, 2

## DIO-S_40V_1A_SOD-123
designator D?, comment CDBW140-G
Rectifier Diode, Schottky, 1 Phase, 1 Element, 1A, 40V V(RRM), Silicon; Manufacturer: Comchip; Forward Voltage: 600mV; Non-rep Pk Forward Current-Max: 25A; Number of Elements: 1; Supplier: Arrow Electronics; Supplier Part Number: CDBW140-G; Manufacturer Part Number: CDBW140-G; RoHS: Yes; Category: Rectifier Diodes; Stock: 378; Pricing: 378=0.0538 (USD); Terminal Finish: Tin; Max Operating Temperature: 150°C; Diode Type: RECTIFIER; Max Output current: 1A; Rep Pk Reverse Voltage-Max: 40V; Surface Mount: Yes; Technology: SCHOTTKY; JESD-609 Code: e3; Reach SVHC Compliant: Yes; RoHS Compliant: Yes; ComponentLink1URL: https://datasheet.ciiva.com:443/pdfs/VipMasterIC/IC/COMC/COMC-S-A0006524542/COMC-S-A0006524542-1.pdf?src-supplier=IHS+Markit; ComponentLink1Description: https://datasheet.ciiva.com:443/pdfs/VipMasterIC/IC/COMC/COMC-S-A0006524542/COMC-S-A0006524542-1.pdf?src-supplier=IHS+Markit; ComponentLink2URL: https://datasheet.ciiva.com/6385/cdbw120-g20thru938266-20cdbw140-g20revd-6385394.pdf?src-supplier=Digikey; ComponentLink2Description: https://datasheet.ciiva.com/6385/cdbw120-g20thru938266-20cdbw140-g20revd-6385394.pdf?src-supplier=Digikey
footprint Model Name (Footprint not found)
footprint SOD-123
pins: 1, 2

## DIO-S_40V_2A_DO214AC
designator D?, comment SSA24-E3/61T
Rectifier Diode, Schottky, 1 Phase, 1 Element, 2A, 40V V(RRM), Silicon, DO-214AC; Manufacturer: Vishay Semiconductors; Package Body Material: Plastic; Application(s): EFFICIENCY; Forward Voltage: 420mV; Non-rep Pk Forward Current-Max: 60A; Number of Elements: 1; Time @ Peak Reflow Temperature-Max (s): 40s; Qualification Status: Not Qualified; Supplier: Mouser; Supplier Part Number: 625-SSA24-E3; Manufacturer Part Number: SSA24-E3/61T; RoHS: Yes; Category: Rectifier Diodes; Stock: 107465; Pricing: 1=0.4, 10=0.288, 50=0.288, 100=0.146, 1000=0.101, 10000=0.074 (USD); Pins: 2; Diode Element Material: SILICON; Package Shape: Rectangular; Terminal Finish: Tin; Min Operating Temperature: -65°C; Max Operating Temperature: 150°C; JESD-609 Code: e3; Diode Type: RECTIFIER; JESD-30 Code: R-PDSO-C2; Moisture Sensitivity Level: 1; Number of Phases: 1; Max Output current: 2A; Package Style: SMALL OUTLINEMeter; Peak Reflow Temperature (Cel): 260°C; Rep Pk Reverse Voltage-Max: 40V; Surface Mount: Yes; Technology: SCHOTTKY; Terminal Form: C BEND; Terminal Position: DUAL; JEDEC-95 Code: DO-214AC; RoHS Compliant: Yes; Reach SVHC Compliant: No; ComponentLink1URL: https://datasheet.ciiva.com:443/pdfs/VipMasterIC/IC/VISH/VISHS92608/VISHS92608-1.pdf?src-supplier=IHS+Markit; ComponentLink1Description: https://datasheet.ciiva.com:443/pdfs/VipMasterIC/IC/VISH/VISHS92608/VISHS92608-1.pdf?src-supplier=IHS+Markit; ComponentLink2URL: https://datasheet.ciiva.com/14831/ssa23l-14831776.pdf?src-supplier=Arrow+Electronics; ComponentLink2Description: https://datasheet.ciiva.com/14831/ssa23l-14831776.pdf?src-supplier=Arrow+Electronics; ComponentLink3URL: https://datasheet.ciiva.com/23793/1761273-23793344.pdf?src-supplier=Newark; ComponentLink3Description: https://datasheet.ciiva.com/23793/1761273-23793344.pdf?src-supplier=Newark; ComponentLink4URL: https://datasheet.ciiva.com/4714/ssa23l-68559-4714011.pdf?src-supplier=Mouser; ComponentLink4Description: https://datasheet.ciiva.com/4714/ssa23l-68559-4714011.pdf?src-supplier=Mouser; ComponentLink5URL: https://datasheet.ciiva.com/17096/ssa24-e3-61t-17096567.pdf?src-supplier=Allied+Electronics; ComponentLink5Description: https://datasheet.ciiva.com/17096/ssa24-e3-61t-17096567.pdf?src-supplier=Allied+Electronics; ComponentLink6URL: https://datasheet.ciiva.com/16335/ssa23l-16335184.pdf?src-supplier=Future+Electronics; ComponentLink6Description: https://datasheet.ciiva.com/16335/ssa23l-16335184.pdf?src-supplier=Future+Electronics
footprint DIO214AC
pins: 1, 2

## DIO-S_50V_0.2A_MicroMelf
designator D?, comment BAS386-TR
Rectifier Diode, Schottky, 1 Phase, 1 Element, 0.2A, 50V V(RRM), Silicon; Manufacturer: Vishay Semiconductors; Package Body Material: Glass; Case Connection: Isolated; Forward Voltage: 300mV; Non-rep Pk Forward Current-Max: 5A; Number of Elements: 1; Max Output current: 200mA; Time @ Peak Reflow Temperature-Max (s): 40s; Qualification Status: Not Qualified; Supplier: Mouser; Supplier Part Number: 78-BAS386; Manufacturer Part Number: BAS386-TR; RoHS: Yes; Category: Rectifier Diodes; Stock: 16140; Pricing: 1=0.26, 10=0.176, 50=0.176, 100=0.096, 1000=0.081, 10000=0.069 (USD); Pins: 2; Diode Element Material: SILICON; Package Shape: Round; Terminal Finish: Tin; Max Operating Temperature: 125°C; JESD-609 Code: e2; Diode Type: RECTIFIER; JESD-30 Code: O-LELF-R2; Moisture Sensitivity Level: 1; Package Style: LONG FORMMeter; Rep Pk Reverse Voltage-Max: 50V; Surface Mount: Yes; Technology: SCHOTTKY; Terminal Form: WRAP AROUND; Terminal Position: END; Peak Reflow Temperature (Cel): 260°C; Reach SVHC Compliant: Yes; RoHS Compliant: Yes; ComponentLink1URL: https://datasheet.ciiva.com:443/pdfs/VipMasterIC/IC/VISH/VISH-S-A0004199119/VISH-S-A0004148063-1.pdf?src-supplier=IHS+Markit; ComponentLink1Description: https://datasheet.ciiva.com:443/pdfs/VipMasterIC/IC/VISH/VISH-S-A0004199119/VISH-S-A0004148063-1.pdf?src-supplier=IHS+Markit; ComponentLink2URL: https://datasheet.ciiva.com/4714/bas386-8511-4714644.pdf?src-supplier=Mouser; ComponentLink2Description: https://datasheet.ciiva.com/4714/bas386-8511-4714644.pdf?src-supplier=Mouser; ComponentLink3URL: https://datasheet.ciiva.com/26943/getdatasheetpartid-45939-26943415.pdf?src-supplier=Verical; ComponentLink3Description: https://datasheet.ciiva.com/26943/getdatasheetpartid-45939-26943415.pdf?src-supplier=Verical; ComponentLink4URL: https://datasheet.ciiva.com/1240/1749351-1240348.pdf?src-supplier=Newark; ComponentLink4Description: https://datasheet.ciiva.com/1240/1749351-1240348.pdf?src-supplier=Newark; ComponentLink5URL: https://datasheet.ciiva.com/14633/0900766b80dd2e51-14633971.pdf?src-supplier=Allied+Electronics; ComponentLink5Description: https://datasheet.ciiva.com/14633/0900766b80dd2e51-14633971.pdf?src-supplier=Allied+Electronics; ComponentLink6URL: https://datasheet.ciiva.com/1240/bas40v-1240407.pdf?src-supplier=Newark; ComponentLink6Description: https://datasheet.ciiva.com/1240/bas40v-1240407.pdf?src-supplier=Newark
footprint MicroMelf
pins: 1, 2

## DIO-S_60V_5A_DO-214AB
designator D?, comment B560C-13-F
Rectifier Diode, Schottky, 1 Phase, 1 Element, 5A, 60V V(RRM), Silicon; Manufacturer: Diodes; Package Body Material: Plastic; Time @ Peak Reflow Temperature-Max (s): 40s; Application(s): EFFICIENCY; Non-rep Pk Forward Current-Max: 100A; Number of Elements: 1; Forward Voltage: 700mV; Qualification Status: Not Qualified; Supplier: Digi-Key; Supplier Part Number: B560C-FDICT-ND; Manufacturer Part Number: B560C-13-F; RoHS: Yes; Category: Rectifier Diodes; Stock: 7154; Pricing: 1=0.51, 10=0.436, 100=0.3033, 500=0.2368, 1000=0.19248 (USD); Pins: 2; Package Shape: Rectangular; Terminal Finish: Tin; Diode Element Material: SILICON; Min Operating Temperature: -55°C; Max Operating Temperature: 125°C; JESD-609 Code: e3; JESD-30 Code: R-PDSO-C2; Moisture Sensitivity Level: 1; Package Style: SMALL OUTLINEMeter; Peak Reflow Temperature (Cel): 260°C; Surface Mount: Yes; Technology: SCHOTTKY; Terminal Form: C BEND; Terminal Position: DUAL; Diode Type: RECTIFIER; Number of Phases: 1; Max Output current: 5A; Rep Pk Reverse Voltage-Max: 60V; RoHS Compliant: Yes; Reach SVHC Compliant: No; ComponentLink1URL: https://datasheet.ciiva.com:443/pdfs/VipMasterIC/IC/DIOD/DIOD-S-A0007810469/DIOD-S-A0007810469-1.pdf?src-supplier=IHS+Markit; ComponentLink1Description: https://datasheet.ciiva.com:443/pdfs/VipMasterIC/IC/DIOD/DIOD-S-A0007810469/DIOD-S-A0007810469-1.pdf?src-supplier=IHS+Markit; ComponentLink2URL: https://datasheet.ciiva.com/27052/1538961-27052355.pdf?src-supplier=Jameco; ComponentLink2Description: https://datasheet.ciiva.com/27052/1538961-27052355.pdf?src-supplier=Jameco; ComponentLink3URL: https://datasheet.ciiva.com/1177/ds13012-1177532.pdf?src-supplier=Element14; ComponentLink3Description: https://datasheet.ciiva.com/1177/ds13012-1177532.pdf?src-supplier=Element14; ComponentLink4URL: https://datasheet.ciiva.com/914/ds13012-914985.pdf?src-supplier=Digi-Key; ComponentLink4Description: https://datasheet.ciiva.com/914/ds13012-914985.pdf?src-supplier=Digi-Key; ComponentLink5URL: https://datasheet.ciiva.com/914/ds13012-914986.pdf?src-supplier=Digi-Key; ComponentLink5Description: https://datasheet.ciiva.com/914/ds13012-914986.pdf?src-supplier=Digi-Key; ComponentLink6URL: https://datasheet.ciiva.com/914/ds13012-914987.pdf?src-supplier=Digi-Key; ComponentLink6Description: https://datasheet.ciiva.com/914/ds13012-914987.pdf?src-supplier=Digi-Key; ComponentLink7URL: https://datasheet.ciiva.com/16389/ds13012-16389735.pdf?src-supplier=Future+Electronics; ComponentLink7Description: https://datasheet.ciiva.com/16389/ds13012-16389735.pdf?src-supplier=Future+Electronics; ComponentLink8URL: https://datasheet.ciiva.com/15144/getdatasheetpartid-89786-15144652.pdf?src-supplier=Verical; ComponentLink8Description: https://datasheet.ciiva.com/15144/getdatasheetpartid-89786-15144652.pdf?src-supplier=Verical
footprint DO-214AB SMC
pins: 1, 2

## DIO-S_100V_1A_SMA-DO-214AC
designator D?, comment SS110-LTP
Rectifier Diode, Schottky, 1 Phase, 1 Element, 1A, 100V V(RRM), Silicon, DO-214AC; Manufacturer: MCC; Package Body Material: Plastic; Number of Elements: 1; Qualification Status: Not Qualified; Supplier: Digikey; Supplier Part Number: SS110-LTPMSCT-ND; Manufacturer Part Number: SS110-LTP; RoHS: Yes; Category: Rectifier Diodes; Stock: 31181; Pricing: 1=0.43, 10=0.304, 100=0.1535, 500=0.12524, 1000=0.09292, 2000=0.07818 (USD); Pins: 2; Diode Element Material: SILICON; Package Shape: Rectangular; Terminal Finish: Tin; JESD-609 Code: e3; Diode Type: RECTIFIER; JESD-30 Code: R-PDSO-C2; Max Output current: 1A; Package Style: SMALL OUTLINEMeter; Rep Pk Reverse Voltage-Max: 100V; Surface Mount: Yes; Technology: SCHOTTKY; Terminal Form: C BEND; Terminal Position: DUAL; JEDEC-95 Code: DO-214AC; RoHS Compliant: Yes; Reach SVHC Compliant: No; ComponentLink1URL: http://components.arrow.com/part/dataview/56205869S300533N2022?src-supplier=Arrow+Electronics; ComponentLink1Description: http://components.arrow.com/part/dataview/56205869S300533N2022?src-supplier=Arrow+Electronics; ComponentLink2URL: http://www.mccsemi.com/up_pdf/SS12-L~SS110-L(DO-214AC).PDF?src-supplier=Digikey; ComponentLink2Description: http://www.mccsemi.com/up_pdf/SS12-L~SS110-L(DO-214AC).PDF?src-supplier=Digikey; ComponentLink3URL: https://datasheet.octopart.com/SS110-LTP-MCC-datasheet-62043875.pdf?src-supplier=Future+Electronics; ComponentLink3Description: https://datasheet.octopart.com/SS110-LTP-MCC-datasheet-62043875.pdf?src-supplier=Future+Electronics
footprint DIO214AC
pins: 1, 2